# EAGLE library part IF_SW_MUX_TMUX1209 (library !GPLIB_ACTIVE)
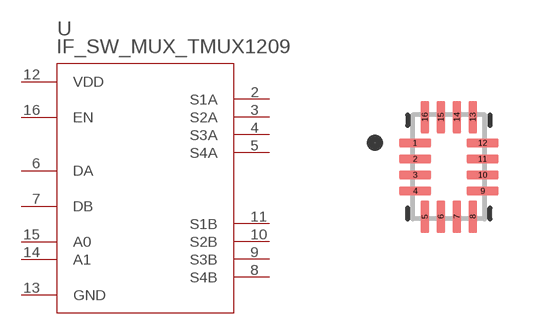
[diagram p61: symbol with the pads of QFN40P260X180X55-16N; footprint QFN40P260X180X55-16N]

Designator prefix U

## IF_SW_MUX_TMUX1209_TMUX1209RSVR  [QFN40P260X180X55-16N]
2  S1A
3  S2A
4  S3A
5  S4A
6  DA
7  DB  in
8  S4B
9  S3B
10  S2B
11  S1B
12  VDD  pwr
13  GND  pas
14  A1  in
15  A0  in
16  EN  in

## Footprint QFN40P260X180X55-16N (pad centres in mm)
smd 0.81 x 0.22: 1 -0.845,0.6; 2 -0.845,0.2; 3 -0.845,-0.2; 4 -0.845,-0.6; 9 0.845,-0.6; 10 0.845,-0.2; 11 0.845,0.2; 12 0.845,0.6
smd 0.22 x 0.81: 5 -0.6,-1.245; 6 -0.2,-1.245; 7 0.2,-1.245; 8 0.6,-1.245; 13 0.6,1.245; 14 0.2,1.245; 15 -0.2,1.245; 16 -0.6,1.245